# Altium schematic symbol library Esqlib.SchLib: 44 symbols (part 3 of 5)
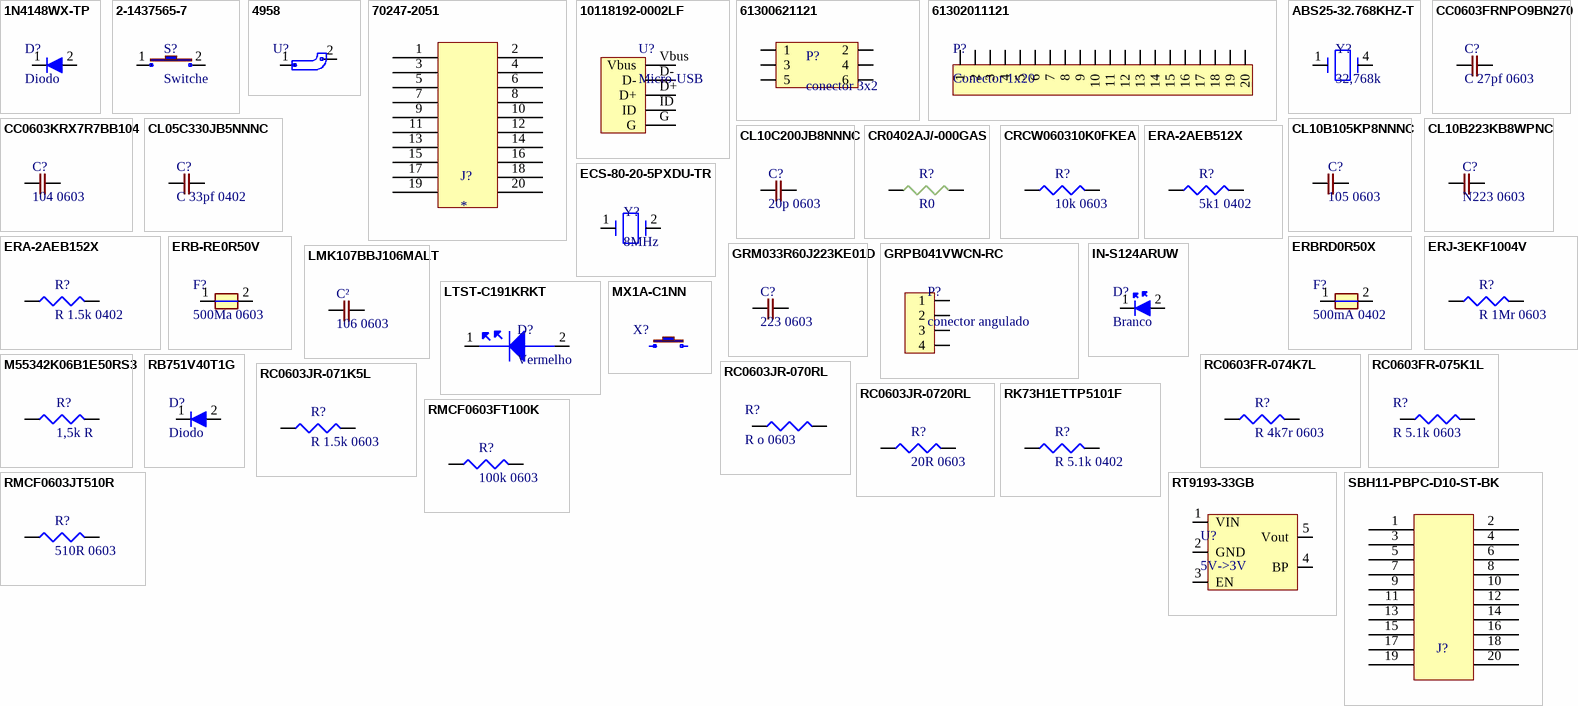
[diagram p3: symbols 1N4148WX-TP to SBH11-PBPC-D10-ST-BK]

## GRM033R60J223KE01D
designator C?, comment 223 0603
0201 22 nF 6.3 V ±10% Tolerance X5R SMT Multilayer Ceramic Capacitor; Manufacturer: Murata; Manufacturer Part Number: GRM033R60J223KE01D; Manufacturer Lifecycle Status: IN PRODUCTION; Value: 22nF; Voltage: 6.3V; Supplier: DigiKey; Supplier Part Number: 490-3169-1-ND; RoHS: Compliant; Category: Ceramic Capacitors; Stock: 1654104; Pricing: 1=0,1, 10=0,039, 50=0,0262, 100=0,0225, 500=0,01582, 1000=0,01271, 2500=0,01092 (USD); Case/Package: 0201; Case Code (Imperial): 0201; Case Code (Metric): 0603; Depth: 300µm; Dielectric: X5R; Dielectric Material: Ceramic; Height: 300µm; Lead Free: Lead Free; Length: 600µm; Lifecycle Status: Production; Material: Ceramic; Max Operating Temperature: 85°C; Min Operating Temperature: -55°C; Mounting Technology: Surface Mount; Pins: 2; Number of Terminals: 2; Packaging: Cut Tape; Radiation Hardening: No; REACH SVHC: Yes; Schedule B: 8532240020, 8532240020|8532240020, 8532240020|8532240020|8532240020, 8532240020|8532240020|8532240020|8532240020; Termination: SMD/SMT; Thickness: 300µm; Tolerance: 10%; Voltage Rating: 6.3V; Voltage Rating (DC): 6.3V; Width: 300µm; ComponentLink1URL: https://datasheet.octopart.com:443/GRM033R60J223KE01D-Murata-datasheet-8398336.pdf?src-supplier=element14+APAC; ComponentLink1Description: https://datasheet.octopart.com:443/GRM033R60J223KE01D-Murata-datasheet-8398336.pdf?src-supplier=element14+APAC; ComponentLink2URL: https://datasheet.octopart.com:443/GRM033R60J223KE01D-Murata-datasheet-62317030.pdf?src-supplier=element14+APAC; ComponentLink2Description: https://datasheet.octopart.com:443/GRM033R60J223KE01D-Murata-datasheet-62317030.pdf?src-supplier=element14+APAC; ComponentLink3URL: https://datasheet.octopart.com:443/GRM033R60J223KE01D-Murata-datasheet-8327535.pdf?src-supplier=_legacy+Avnet; ComponentLink3Description: https://datasheet.octopart.com:443/GRM033R60J223KE01D-Murata-datasheet-8327535.pdf?src-supplier=_legacy+Avnet; ComponentLink4URL: https://datasheet.octopart.com:443/GRM033R60J223KE01D-Murata-datasheet-14399030.pdf?src-supplier=Future+Electronics; ComponentLink4Description: https://datasheet.octopart.com:443/GRM033R60J223KE01D-Murata-datasheet-14399030.pdf?src-supplier=Future+Electronics; ComponentLink5URL: https://datasheet.octopart.com:443/GRM033R60J223KE01D-Murata-datasheet-22122223.pdf?src-supplier=Future+Electronics; ComponentLink5Description: https://datasheet.octopart.com:443/GRM033R60J223KE01D-Murata-datasheet-22122223.pdf?src-supplier=Future+Electronics; ComponentLink6URL: https://datasheet.octopart.com:443/GRM033R60J223KE01D-Murata-datasheet-44105384.pdf?src-supplier=Future+Electronics; ComponentLink6Description: https://datasheet.octopart.com:443/GRM033R60J223KE01D-Murata-datasheet-44105384.pdf?src-supplier=Future+Electronics; ComponentLink7URL: https://datasheet.octopart.com:443/GRM033R60J223KE01D-Murata-datasheet-165579666.pdf?src-supplier=TME; ComponentLink7Description: https://datasheet.octopart.com:443/GRM033R60J223KE01D-Murata-datasheet-165579666.pdf?src-supplier=TME; ComponentLink8URL: https://datasheet.octopart.com:443/GRM033R60J223KE01D-Murata-datasheet-141274201.pdf?src-supplier=Ciiva; ComponentLink8Description: https://datasheet.octopart.com:443/GRM033R60J223KE01D-Murata-datasheet-141274201.pdf?src-supplier=Ciiva; ComponentLink9URL: https://datasheet.octopart.com:443/GRM033R60J223KE01D-Murata-datasheet-140675770.pdf?src-supplier=Ciiva; ComponentLink9Description: https://datasheet.octopart.com:443/GRM033R60J223KE01D-Murata-datasheet-140675770.pdf?src-supplier=Ciiva; ComponentLink10URL: https://datasheet.octopart.com:443/GRM033R60J223KE01D-Murata-datasheet-138738347.pdf?src-supplier=Ciiva; ComponentLink10Description: https://datasheet.octopart.com:443/GRM033R60J223KE01D-Murata-datasheet-138738347.pdf?src-supplier=Ciiva; ComponentLink11URL: https://datasheet.octopart.com/GRM033R60J223KE01D-Murata-datasheet-12515295.pdf; ComponentLink11Description: https://datasheet.octopart.com/GRM033R60J223KE01D-Murata-datasheet-12515295.pdf; ComponentLink12URL: https://datasheet.octopart.com/GRM033R60J223KE01D-Murata-datasheet-12510076.pdf; ComponentLink12Description: https://datasheet.octopart.com/GRM033R60J223KE01D-Murata-datasheet-12510076.pdf; ComponentLink13URL: https://datasheet.octopart.com/GRM033R60J223KE01D-Murata-datasheet-11978611.pdf; ComponentLink13Description: https://datasheet.octopart.com/GRM033R60J223KE01D-Murata-datasheet-11978611.pdf; ComponentLink14URL: https://datasheet.octopart.com/GRM033R60J223KE01D-Murata-datasheet-10025737.pdf; ComponentLink14Description: https://datasheet.octopart.com/GRM033R60J223KE01D-Murata-datasheet-10025737.pdf; ComponentLink15URL: https://datasheet.octopart.com/GRM033R60J223KE01D-Murata-datasheet-8819587.pdf; ComponentLink15Description: https://datasheet.octopart.com/GRM033R60J223KE01D-Murata-datasheet-8819587.pdf; ComponentLink16URL: https://datasheet.octopart.com:443/GRM033R60J223KE01D.-Murata-datasheet-5332913.pdf?src-supplier=Farnell; ComponentLink16Description: https://datasheet.octopart.com:443/GRM033R60J223KE01D.-Murata-datasheet-5332913.pdf?src-supplier=Farnell; ComponentLink17URL: https://datasheet.octopart.com:443/GRM033R60J223KE01D-Murata-datasheet-148210.pdf?src-supplier=Garrett; ComponentLink17Description: https://datasheet.octopart.com:443/GRM033R60J223KE01D-Murata-datasheet-148210.pdf?src-supplier=Garrett; ComponentLink18URL: https://datasheet.octopart.com:443/GRM033R60J223KE01D-Murata-datasheet-118811.pdf?src-supplier=DigiKey; ComponentLink18Description: https://datasheet.octopart.com:443/GRM033R60J223KE01D-Murata-datasheet-118811.pdf?src-supplier=DigiKey; ComponentLink19URL: http://sigma.octopart.com:80/reach_statement/Murata-company-16.pdf?src-supplier=Compliance+Statements; ComponentLink19Description: http://sigma.octopart.com:80/reach_statement/Murata-company-16.pdf?src-supplier=Compliance+Statements
footprint cap 223 0603
pins: 1, 2

## GRPB041VWCN-RC
designator P?, comment conector angulado
ROHS3Compliant COMMERCIAL UL 2009 Connector Header -40C~105C 1A 0.069inch; Manufacturer: Sullins; Manufacturer Part Number: GRPB041VWCN-RC; Connector Type: Male Pin; Contact Resistance: 20mΩ; Dielectric Material: Polyamide; Insulation Resistance: 5GΩ; Number of Positions: 4; Pitch: 1.27mm; Supplier: DigiKey; Supplier Part Number: S9016E-04-ND; RoHS: Compliant; Category: Card Edge Connectors; Stock: 15187; Pricing: 1=0,35, 10=0,294, 100=0,2499, 500=0,223, 1000=0,21235, 5000=0,18955, 10000=0,1805 (USD); Contact Gender: Male; Contact Material: Brass; Contact Mating Length: 2.9972mm; Contact Plating: Gold; Current Rating: 1A; Lifecycle Status: Production; Max Operating Temperature: 105°C; Min Operating Temperature: -40°C; Mounting Technology: Through Hole; Pins: 4; Number of Rows: 1; Packaging: Bulk; REACH SVHC: Yes; Terminal Pitch: 1.27mm; Termination: Solder; ComponentLink1URL: https://datasheet.octopart.com:443/GRPB041VWCN-RC-Sullins-datasheet-17725985.pdf?src-supplier=Upverter; ComponentLink1Description: https://datasheet.octopart.com:443/GRPB041VWCN-RC-Sullins-datasheet-17725985.pdf?src-supplier=Upverter; ComponentLink2URL: https://datasheet.octopart.com:443/GRPB041VWCN-RC-Sullins-datasheet-12514290.pdf?src-supplier=IHS; ComponentLink2Description: https://datasheet.octopart.com:443/GRPB041VWCN-RC-Sullins-datasheet-12514290.pdf?src-supplier=IHS; ComponentLink3URL: https://datasheet.octopart.com:443/GRPB041VWCN-RC-Sullins-datasheet-138898432.pdf?src-supplier=Future+Electronics; ComponentLink3Description: https://datasheet.octopart.com:443/GRPB041VWCN-RC-Sullins-datasheet-138898432.pdf?src-supplier=Future+Electronics
footprint Conector angulado
pins: 1, 2, 3, 4

## IN-S124ARUW
designator D?, comment Branco
SMD LED - Mono Color Reverse Mount, 1204 1.1mm LED PCB Type, White, High Brightness, Clear Lens, Angle 140; Manufacturer: Inolux; Manufacturer Part Number: IN-S124ARUW; Forward Current: 20mA; Forward Voltage: 3.9V; Lens Style: Diffused; Luminous Intensity: 140mcd; Number of Circuits: 1; Reverse Voltage: 5V; Shape: Rectangular; Viewing Angle: 140°; Supplier: DigiKey; Supplier Part Number: 1830-1119-1-ND; RoHS: Compliant; Category: LEDs; Stock: 127045; Pricing: 1=0,29, 10=0,197, 100=0,1388, 500=0,11218, 1000=0,10337 (USD); China RoHS: Compliant; Color: White; Height: 800µm; Max Operating Temperature: 85°C; Min Operating Temperature: -40°C; Mounting Technology: Surface Mount; Number of Terminals: 2; REACH SVHC: Yes; Terminal Pitch: 2.7mm; ComponentLink1URL: https://datasheet.octopart.com:443/IN-S124ARUW-Inolux-datasheet-145017384.pdf?src-supplier=ODG+(Origin+Data+Global); ComponentLink1Description: https://datasheet.octopart.com:443/IN-S124ARUW-Inolux-datasheet-145017384.pdf?src-supplier=ODG+(Origin+Data+Global)
footprint Led branco
pins: 1, 2

## LMK107BBJ106MALT
designator C², comment 106 0603
Multilayer Ceramic Capacitors (High dielectric type), 10V, 10 uF, ± 20 %, 0603, X5R, RoHS; Manufacturer: Taiyo Yuden; Manufacturer Part Number: LMK107BBJ106MALT; Value: 10µF; Tolerance: 20%; Supplier: DigiKey; Supplier Part Number: 587-3258-1-ND; RoHS: Compliant; Category: Ceramic Capacitors; Stock: 1593340; Pricing: 1=0,08, 10=0,046, 50=0,036, 100=0,0256, 500=0,0212, 1000=0,01928 (USD); Case/Package: 0603; Case Code (Imperial): 0603; Case Code (Metric): 1608; Composition: Ceramic; Depth: 800µm; Dielectric: X5R; Dielectric Material: Ceramic; Height: 800µm; Lead Free: Lead Free; Length: 1.6mm; Lifecycle Status: Production; Material: Ceramic; Max Operating Temperature: 85°C; Min Operating Temperature: -55°C; Mounting Technology: Surface Mount; Number of Terminals: 2; Radiation Hardening: No; REACH SVHC: Yes; Termination: SMD/SMT; Thickness: 889µm; Voltage: 10V; Voltage Rating: 10V; Voltage Rating (DC): 10V; Width: 800µm; ComponentLink1URL: https://datasheet.octopart.com:443/LMK107BBJ106MALT-Taiyo-Yuden-datasheet-182109547.pdf?src-supplier=IHS; ComponentLink1Description: https://datasheet.octopart.com:443/LMK107BBJ106MALT-Taiyo-Yuden-datasheet-182109547.pdf?src-supplier=IHS; ComponentLink2URL: https://datasheet.octopart.com:443/LMK107BBJ106MALT-Taiyo-Yuden-datasheet-151625811.pdf?src-supplier=element14+APAC; ComponentLink2Description: https://datasheet.octopart.com:443/LMK107BBJ106MALT-Taiyo-Yuden-datasheet-151625811.pdf?src-supplier=element14+APAC; ComponentLink3URL: https://datasheet.octopart.com:443/LMK107BBJ106MALT-Taiyo-Yuden-datasheet-21408036.pdf?src-supplier=element14+APAC; ComponentLink3Description: https://datasheet.octopart.com:443/LMK107BBJ106MALT-Taiyo-Yuden-datasheet-21408036.pdf?src-supplier=element14+APAC; ComponentLink4URL: https://datasheet.octopart.com:443/LMK107BBJ106MALT-Taiyo-Yuden-datasheet-41194858.pdf?src-supplier=Newark; ComponentLink4Description: https://datasheet.octopart.com:443/LMK107BBJ106MALT-Taiyo-Yuden-datasheet-41194858.pdf?src-supplier=Newark; ComponentLink5URL: https://datasheet.octopart.com:443/LMK107BBJ106MALT-Taiyo-Yuden-datasheet-8857305.pdf?src-supplier=Newark; ComponentLink5Description: https://datasheet.octopart.com:443/LMK107BBJ106MALT-Taiyo-Yuden-datasheet-8857305.pdf?src-supplier=Newark; ComponentLink6URL: https://datasheet.octopart.com:443/LMK107BBJ106MALT-Taiyo-Yuden-datasheet-8434558.pdf?src-supplier=Newark; ComponentLink6Description: https://datasheet.octopart.com:443/LMK107BBJ106MALT-Taiyo-Yuden-datasheet-8434558.pdf?src-supplier=Newark; ComponentLink7URL: https://datasheet.octopart.com:443/LMK107BBJ106MALT-Taiyo-Yuden-datasheet-154807907.pdf?src-supplier=Master+Electronics; ComponentLink7Description: https://datasheet.octopart.com:443/LMK107BBJ106MALT-Taiyo-Yuden-datasheet-154807907.pdf?src-supplier=Master+Electronics; ComponentLink8URL: https://datasheet.octopart.com:443/LMK107BBJ106MALT-Taiyo-Yuden-datasheet-140424376.pdf?src-supplier=Master+Electronics; ComponentLink8Description: https://datasheet.octopart.com:443/LMK107BBJ106MALT-Taiyo-Yuden-datasheet-140424376.pdf?src-supplier=Master+Electronics; ComponentLink9URL: https://datasheet.octopart.com:443/LMK107BBJ106MALT-Taiyo-Yuden-datasheet-10851928.pdf?src-supplier=Future+Electronics; ComponentLink9Description: https://datasheet.octopart.com:443/LMK107BBJ106MALT-Taiyo-Yuden-datasheet-10851928.pdf?src-supplier=Future+Electronics; ComponentLink10URL: https://datasheet.octopart.com:443/LMK107BBJ106MALT-Taiyo-Yuden-datasheet-100443364.pdf?src-supplier=Future+Electronics; ComponentLink10Description: https://datasheet.octopart.com:443/LMK107BBJ106MALT-Taiyo-Yuden-datasheet-100443364.pdf?src-supplier=Future+Electronics; ComponentLink11URL: https://datasheet.octopart.com:443/LMK107BBJ106MALT-Taiyo-Yuden-datasheet-99833423.pdf?src-supplier=Future+Electronics; ComponentLink11Description: https://datasheet.octopart.com:443/LMK107BBJ106MALT-Taiyo-Yuden-datasheet-99833423.pdf?src-supplier=Future+Electronics; ComponentLink12URL: https://datasheet.octopart.com:443/LMK107BBJ106MALT-Taiyo-Yuden-datasheet-99833418.pdf?src-supplier=Future+Electronics; ComponentLink12Description: https://datasheet.octopart.com:443/LMK107BBJ106MALT-Taiyo-Yuden-datasheet-99833418.pdf?src-supplier=Future+Electronics; ComponentLink13URL: https://datasheet.octopart.com:443/LMK107BBJ106MALT-Taiyo-Yuden-datasheet-138738940.pdf?src-supplier=Taiyo+Yuden+SCT; ComponentLink13Description: https://datasheet.octopart.com:443/LMK107BBJ106MALT-Taiyo-Yuden-datasheet-138738940.pdf?src-supplier=Taiyo+Yuden+SCT
footprint cap 106 0603
pins: 1, 2

## LTST-C191KRKT
designator D?, comment Vermelho
LED Uni-Color Red 639nm 2-Pin Chip LED T/R / LED RED CLEAR 0603 SMD; Manufacturer: Lite-On; Manufacturer Part Number: LTST-C191KRKT; Current: 2A; Dominant Wavelength: 631nm; Forward Current: 30mA; Forward Voltage: 2.4V; Lens Color: Colorless; Luminous Intensity: 18mcd; Number of Circuits: 1; Power Dissipation: 75mW; Reverse Voltage: 5V; Shape: Rectangular; Test Current: 20mA; Viewing Angle: 130°; Voltage: 2V; Supplier: DigiKey; Supplier Part Number: 160-1447-1-ND; RoHS: Compliant; Category: LEDs; Stock: 812402; Pricing: 1=0,15, 10=0,1, 100=0,0687, 500=0,05446, 1000=0,0497, 2000=0,04563 (USD); Case/Package: 0603; Case Code (Imperial): 0603; Case Code (Metric): 1608; China RoHS: Compliant; Color: Red; Contact Plating: Tin; Depth: 800µm; Height: 550µm; Illumination Color: Red; Lead Free: Lead Free; Length: 1.6mm; Lens Style: Clear; Lens Transparency: Clear; Lifecycle Status: Production; Max Operating Temperature: 85°C; Min Operating Temperature: -55°C; Mounting Technology: Surface Mount; Number of Elements: 1; Number of LEDs: 1; Pins: 2; Number of Terminals: 2; Peak Wavelength: 639nm; Power Rating: 75mW; Radiation Hardening: No; REACH SVHC: Yes; Schedule B: 8541402000, 8541402000|8541402000|8541402000|8541402000|8541402000|8541402000|8541402000|8541402000, 8541402000|8541402000|8541402000|8541402000|8541402000|8541402000|8541402000|8541402000|8541402000, 8541402000|8541402000|8541402000|8541402000|8541402000|8541402000|8541402000|8541402000|8541402000|8541402000; Terminal Pitch: 1.5mm; Wavelength: 631nm; Width: 800µm; ComponentLink1URL: https://datasheet.octopart.com:443/LTST-C191KRKT-Lite-On-datasheet-86397322.pdf?src-supplier=Upverter; ComponentLink1Description: https://datasheet.octopart.com:443/LTST-C191KRKT-Lite-On-datasheet-86397322.pdf?src-supplier=Upverter; ComponentLink2URL: https://datasheet.octopart.com:443/LTST-C191KRKT-Lite-On-datasheet-180605194.pdf?src-supplier=IHS; ComponentLink2Description: https://datasheet.octopart.com:443/LTST-C191KRKT-Lite-On-datasheet-180605194.pdf?src-supplier=IHS; ComponentLink3URL: https://datasheet.octopart.com:443/LTST-C191KRKT-Lite-On-datasheet-158249.pdf?src-supplier=_legacy+Avnet; ComponentLink3Description: https://datasheet.octopart.com:443/LTST-C191KRKT-Lite-On-datasheet-158249.pdf?src-supplier=_legacy+Avnet; ComponentLink4URL: https://datasheet.octopart.com:443/LTST-C191KRKT-Lite-On-datasheet-32047004.pdf?src-supplier=TME; ComponentLink4Description: https://datasheet.octopart.com:443/LTST-C191KRKT-Lite-On-datasheet-32047004.pdf?src-supplier=TME; ComponentLink5URL: https://datasheet.octopart.com:443/LTST-C191KRKT-Lite-On-datasheet-165573808.pdf?src-supplier=TME; ComponentLink5Description: https://datasheet.octopart.com:443/LTST-C191KRKT-Lite-On-datasheet-165573808.pdf?src-supplier=TME; ComponentLink6URL: https://datasheet.octopart.com:443/LTST-C191KRKT-Lite-On-datasheet-157246188.pdf?src-supplier=ODG+(Origin+Data+Global); ComponentLink6Description: https://datasheet.octopart.com:443/LTST-C191KRKT-Lite-On-datasheet-157246188.pdf?src-supplier=ODG+(Origin+Data+Global); ComponentLink7URL: https://datasheet.octopart.com:443/LTST-C191KRKT-Lite-On-datasheet-8220457.pdf?src-supplier=Jameco; ComponentLink7Description: https://datasheet.octopart.com:443/LTST-C191KRKT-Lite-On-datasheet-8220457.pdf?src-supplier=Jameco; ComponentLink8URL: https://datasheet.octopart.com:443/LTST-C191KRKT-Lite-On-datasheet-64696.pdf?src-supplier=DigiKey; ComponentLink8Description: https://datasheet.octopart.com:443/LTST-C191KRKT-Lite-On-datasheet-64696.pdf?src-supplier=DigiKey
footprint LED Vermelho
pins: 1, 2

## M55342K06B1E50RS3
designator R?, comment 1,5k R
Fixed Resistor, Metal Glaze/thick Film, 0.15W, 1500ohm, 50V, 1% +/-Tol, 100ppm/Cel, Surface Mount, 0705; Manufacturer: Vishay; Manufacturer Part Number: M55342K06B1E50RS3; Max Power Dissipation: 150mW; Value: 1.5kΩ; Temperature Coefficient: 100ppm/°C; Supplier: DigiKey; Supplier Part Number: 541-M55342K06B1E50RS3CT-ND; Category: Chip SMD Resistors; Stock: 759; Pricing: 1=1,42, 10=0,838, 25=0,7528, 50=0,74, 100=0,7082, 250=0,66168, 500=0,63208 (USD); Case/Package: 0705; Case Code (Imperial): 0805; Case Code (Metric): 2012; China RoHS: Non-Compliant; Composition: Thick Film; Contact Plating: Lead, Tin; Depth: 1.27mm; Failure Rate: 0.01%; Features: Military; Height: 510µm; Length: 2.032mm; Lifecycle Status: Production; Max Operating Temperature: 150°C; Military Standard: MIL-PRF-55342; Min Operating Temperature: -65°C; Mounting Technology: Surface Mount; Number of Terminals: 2; Number of Terminations: 2; Packaging: Digi-Reel®; Power Dissipation: 150mW; Radiation Hardening: No; REACH SVHC: No; RoHS: Non-Compliant; Schedule B: 8533210045, 8533210045|8533210045|8533210045|8533210045|8533210045; Tolerance: 1%; Width: 1.27mm; Working Voltage: 50V; ComponentLink1URL: https://datasheet.octopart.com:443/M55342K06B1E50RS3-Vishay-datasheet-159614010.pdf?src-supplier=IHS; ComponentLink1Description: https://datasheet.octopart.com:443/M55342K06B1E50RS3-Vishay-datasheet-159614010.pdf?src-supplier=IHS; ComponentLink2URL: http://sigma.octopart.com:80/rohs_statement/Vishay-company-15.pdf?src-supplier=Compliance+Statements; ComponentLink2Description: http://sigma.octopart.com:80/rohs_statement/Vishay-company-15.pdf?src-supplier=Compliance+Statements
footprint R 1.5k
pins: 1, 2

## MX1A-C1NN
designator X?, comment switch  (value not drawn)
Switch, Key, Spst-no, Keyboard, Low Profile, 10MA, 12VDC, Soft Tactile, Fp Mnt, Std Force; Manufacturer: Cherry; Manufacturer Part Number: MX1A-C1NN; Actuator Length: 3.6mm; Actuator Material: Polyethylene, Thermoplastic; Contact Resistance: 200mΩ; Contact Voltage Rating (AC): 12V; Dielectric Material: Thermoplastic; Electrical Life: 20Mcycles; Insulation Resistance: 100MΩ; Operating Force: 589.4mN; Row Spacing: 2.54mm; Switch Function: Off-Mom; Throw Configuration: SPST; Supplier: DigiKey; Supplier Part Number: CH198-ND; RoHS: Compliant; Category: Pushbutton Switches; Stock: 664; Pricing: 1=1,25 (USD); Contact Current Rating: 10mA; Contact Material: Gold, Silver; Contact Plating: Gold; Current Rating: 10mA; Housing Material: Thermoplastic; Lead Free: Lead Free; Length: 15.5956mm; Max Current Rating: 10mA; Max Operating Temperature: 70°C; Max Voltage Rating (AC): 12V; Max Voltage Rating (DC): 12V; Mechanical Life: 20Mcycles; Min Operating Temperature: -10°C; Mounting Technology: Front, Panel, Through Hole; Number of Terminals: 2; Packaging: Bulk; REACH SVHC: Yes; Terminal Pitch: 6.35mm; Termination: PC Pin; Voltage Rating (AC): 12V; Voltage Rating (DC): 12V; Width: 15.6mm; ComponentLink1URL: https://datasheet.octopart.com:443/MX1A-C1NN-Cherry-datasheet-160429.pdf?src-supplier=Electro+Sonic; ComponentLink1Description: https://datasheet.octopart.com:443/MX1A-C1NN-Cherry-datasheet-160429.pdf?src-supplier=Electro+Sonic; ComponentLink2URL: https://datasheet.octopart.com:443/MX1A-C1NN-Cherry-datasheet-11735291.pdf?src-supplier=Electro+Sonic; ComponentLink2Description: https://datasheet.octopart.com:443/MX1A-C1NN-Cherry-datasheet-11735291.pdf?src-supplier=Electro+Sonic; ComponentLink3URL: https://datasheet.octopart.com:443/MX1A-C1NN-Cherry-datasheet-130429.pdf?src-supplier=Newark; ComponentLink3Description: https://datasheet.octopart.com:443/MX1A-C1NN-Cherry-datasheet-130429.pdf?src-supplier=Newark; ComponentLink4URL: https://datasheet.octopart.com:443/MX1A-C1NN-Cherry-datasheet-101570275.pdf?src-supplier=Newark; ComponentLink4Description: https://datasheet.octopart.com:443/MX1A-C1NN-Cherry-datasheet-101570275.pdf?src-supplier=Newark; ComponentLink5URL: https://datasheet.octopart.com:443/MX1A-C1NN-Cherry-datasheet-5391353.pdf?src-supplier=Newark; ComponentLink5Description: https://datasheet.octopart.com:443/MX1A-C1NN-Cherry-datasheet-5391353.pdf?src-supplier=Newark; ComponentLink6URL: https://datasheet.octopart.com:443/MX1AC1NN-Cherry-datasheet-137317204.pdf?src-supplier=Sager+Electronics; ComponentLink6Description: https://datasheet.octopart.com:443/MX1AC1NN-Cherry-datasheet-137317204.pdf?src-supplier=Sager+Electronics
footprint tecla

## RB751V40T1G
designator D?, comment Diodo
Rectifier Diode Schottky 40V 0.03A 2-Pin SOD-323 T/R / DIODE SCHOTTKY 30V 30MA SOD323; Manufacturer: onsemi; Manufacturer Part Number: RB751V40T1G; Manufacturer Lifecycle Status: ACTIVE; Value: 2pF; Element Configuration: Single; Forward Voltage: 370mV; Max Forward Surge Current (Ifsm): 500mA; Max Junction Temperature (Tj): 150°C; Max Power Dissipation: 200mW; Max Reverse Leakage Current: 500nA; Number of Elements: 1; Peak Reverse Current: 300nA; Polarity: Standard; Supplier: DigiKey; Supplier Part Number: RB751V40T1GOSCT-ND; RoHS: Compliant; Category: Schottky Diodes; Stock: 326738; Pricing: 1=0,12, 10=0,08, 100=0,0663, 500=0,0482, 1000=0,04232 (USD); Average Rectified Current: 30mA; Breakdown Voltage: 30V; Case/Package: SOD-323-2; China RoHS: Compliant; Contact Plating: Tin; Current Rating: 30mA; Forward Current: 30mA; Height: 1.1mm; Lead Free: Lead Free; Length: 1.7mm; Lifecycle Status: Production; Max Operating Temperature: 150°C; Max Output current: 30mA; Max Repetitive Reverse Voltage (Vrrm): 40V; Max Reverse Voltage (DC): 30V; Max Surge Current: 500mA; Min Operating Temperature: -55°C; Pins: 2; Number of Terminals: 2; Output Current: 30mA; Packaging: Tape and Reel; Peak Non-Repetitive Surge Current: 500mA; Power Dissipation: 200mW; Radiation Hardening: No; REACH SVHC: Yes; Reverse Standoff Voltage: 40V; Reverse Voltage: 30V; Schedule B: 8541100070, 8541100070|8541100070|8541100070|8541100070|8541100070; Voltage Rating (DC): 40V; Width: 1.25mm; ComponentLink1URL: https://datasheet.octopart.com:443/RB751V40T1G-ON-Semiconductor-datasheet-41194509.pdf?src-supplier=Newark; ComponentLink1Description: https://datasheet.octopart.com:443/RB751V40T1G-ON-Semiconductor-datasheet-41194509.pdf?src-supplier=Newark; ComponentLink2URL: https://datasheet.octopart.com:443/RB751V40T1G-onsemi-datasheet-181959519.pdf?src-supplier=Newark; ComponentLink2Description: https://datasheet.octopart.com:443/RB751V40T1G-onsemi-datasheet-181959519.pdf?src-supplier=Newark; ComponentLink3URL: https://datasheet.octopart.com:443/RB751V40T1G-onsemi-datasheet-180967452.pdf?src-supplier=IHS; ComponentLink3Description: https://datasheet.octopart.com:443/RB751V40T1G-onsemi-datasheet-180967452.pdf?src-supplier=IHS; ComponentLink4URL: https://datasheet.octopart.com:443/RB751V40T1G-ON-Semiconductor-datasheet-7840961.pdf?src-supplier=onsemi; ComponentLink4Description: https://datasheet.octopart.com:443/RB751V40T1G-ON-Semiconductor-datasheet-7840961.pdf?src-supplier=onsemi; ComponentLink5URL: https://sigma.octopart.com:443/138897946/technical_drawing/ON-Semiconductor-RB751V40T1G.pdf?src-supplier=Upverter; ComponentLink5Description: https://sigma.octopart.com:443/138897946/technical_drawing/ON-Semiconductor-RB751V40T1G.pdf?src-supplier=Upverter; ComponentLink6URL: https://datasheet.octopart.com:443/RB751V40T1G-onsemi-datasheet-189132549.pdf?src-supplier=Master+Electronics; ComponentLink6Description: https://datasheet.octopart.com:443/RB751V40T1G-onsemi-datasheet-189132549.pdf?src-supplier=Master+Electronics; ComponentLink7URL: https://datasheet.octopart.com:443/RB751V40T1G-ON-Semiconductor-datasheet-14053699.pdf?src-supplier=iiiC; ComponentLink7Description: https://datasheet.octopart.com:443/RB751V40T1G-ON-Semiconductor-datasheet-14053699.pdf?src-supplier=iiiC; ComponentLink8URL: http://sigma.octopart.com:80/150630996/rohs_statement/ON-Semiconductor-RB751V40T1G.pdf?src-supplier=Compliance+Statements; ComponentLink8Description: http://sigma.octopart.com:80/150630996/rohs_statement/ON-Semiconductor-RB751V40T1G.pdf?src-supplier=Compliance+Statements; ComponentLink9URL: http://sigma.octopart.com:80/reach_statement/ON-Semiconductor-company-79.pdf?src-supplier=Compliance+Statements; ComponentLink9Description: http://sigma.octopart.com:80/reach_statement/ON-Semiconductor-company-79.pdf?src-supplier=Compliance+Statements; ComponentLink10URL: https://octopart.com:443/opatz8j6/c1?t=IbneskzpI6_J-0eY_y-X2yn2N-5wLoMr36apzcez1S_u4OvquotVY5BE5fLqyPyiIhjspGfCn1ztEOQs5lUs8YSmcSDpiD0yNsSosKmFxQ2VZB7rFFyzFStaQmehSvuBD_5Fjp87ktPqqQqsOBmyFi_jZJIZCoBdtoiqD19nz4vQSd4pu3K8wIVgp6XFpI-O9H_zLHNefACfV6j-N4H3UJuvVBWUuLqINZc0CV-0fJawZMzDzVmangXZQ_aEOc3DOUx5hrTGhpQjW-fyp_zH5ezkV_H6XXL2FecWA9u7jRraK23ujBpybLeXZZ4QgBKpVYHs8tSA4CrzrXt4hEWg2haxnQGokIBqJFD5CN0&src-supplier=Compliance+Statements; ComponentLink10Description: https://octopart.com:443/opatz8j6/c1?t=IbneskzpI6_J-0eY_y-X2yn2N-5wLoMr36apzcez1S_u4OvquotVY5BE5fLqyPyiIhjspGfCn1ztEOQs5lUs8YSmcSDpiD0yNsSosKmFxQ2VZB7rFFyzFStaQmehSvuBD_5Fjp87ktPqqQqsOBmyFi_jZJIZCoBdtoiqD19nz4vQSd4pu3K8wIVgp6XFpI-O9H_zLHNefACfV6j-N4H3UJuvVBWUuLqINZc0CV-0fJawZMzDzVmangXZQ_aEOc3DOUx5hrTGhpQjW-fyp_zH5ezkV_H6XXL2FecWA9u7jRraK23ujBpybLeXZZ4QgBKpVYHs8tSA4CrzrXt4hEWg2haxnQGokIBqJFD5CN0&src-supplier=Compliance+Statements; ComponentLink11URL: https://octopart.com:443/opatz8j6/c1?t=qIfCs529ldaWZU0ub9LYhnPXHBmDeJdE0JV4wqGLUhnGh5a0BS7kfzUI9zL_JaDXZFykcslYIWxAhQ5X0oh6J8wRLEITjFJB-_qXZnEOzcPmN69_Qugj71XII_8ETcLUyzSs3rzS31vIojbIhgnJ_7XhuEMZJSZPHyPuMFBH_ZzDjM13A6tpbSWNI9CgjC1g_q5wgGJdNwHOPQ_BZxh8Y2CDUgAAWKD7AuUYdFw4kRI0fhiPd9fP-Ll6d45IPzSr4bAloWCduol0C0YJ_9IUZQSygUOMTjgU_wvPI_Jt6ISIRSVcSG3mdm5w8DKmD-PN91fyf4QeSQbgGTAN30a1piGPKkuf8znY58UiFA&src-supplier=Compliance+Statements; ComponentLink11Description: https://octopart.com:443/opatz8j6/c1?t=qIfCs529ldaWZU0ub9LYhnPXHBmDeJdE0JV4wqGLUhnGh5a0BS7kfzUI9zL_JaDXZFykcslYIWxAhQ5X0oh6J8wRLEITjFJB-_qXZnEOzcPmN69_Qugj71XII_8ETcLUyzSs3rzS31vIojbIhgnJ_7XhuEMZJSZPHyPuMFBH_ZzDjM13A6tpbSWNI9CgjC1g_q5wgGJdNwHOPQ_BZxh8Y2CDUgAAWKD7AuUYdFw4kRI0fhiPd9fP-Ll6d45IPzSr4bAloWCduol0C0YJ_9IUZQSygUOMTjgU_wvPI_Jt6ISIRSVcSG3mdm5w8DKmD-PN91fyf4QeSQbgGTAN30a1piGPKkuf8znY58UiFA&src-supplier=Compliance+Statements
footprint Diodo C
pins: 1, 2

## RC0603FR-074K7L
designator R?, comment R 4k7r 0603
Res Thick Film 1.6 x 0.8 mm 4.7K Ohm 1% 0.1W(1/10W) 100ppm/ C Molded SMD Paper T/R; Manufacturer: Yageo Group; Manufacturer Part Number: RC0603FR-074K7L; Power Dissipation: 100mW; Value: 4.7kΩ; Temperature Coefficient: 100ppm/°C; Voltage Rating: 75V; Voltage Rating (DC): 50V; Supplier: DigiKey; Supplier Part Number: 311-4.70KHRCT-ND; RoHS: Compliant; Category: Chip SMD Resistors; Stock: 353328; Pricing: 1=0,1, 10=0,009, 25=0,0088, 50=0,0052 (USD); Case/Package: 0603; Case Code (Imperial): 0603; China RoHS: Non-Compliant; Composition: Thick Film; Depth: 800µm; Height: 450µm; Lead Free: Lead Free; Lead Pitch: 300µm; Length: 1.6mm; Lifecycle Status: Production; Max Operating Temperature: 155°C; Military Standard: Not; Min Operating Temperature: -55°C; Mounting Technology: Surface Mount; Pins: 2; Number of Terminals: 2; Packaging: Tape & Reel; Power Rating: 100mW; REACH SVHC: Yes; Schedule B: 8533210045, 8533210045|8533210045|8533210045|8533210045|8533210045|8533210045|8533210045|8533210045|8533210045|8533210045|8533210045|8533210045|8533210045|8533210045|8533210045|8533210045|8533210045|8533210045|8533210045|8533210045|8533210045|8533210045|8533210045|85; Termination: SMD/SMT; Tolerance: 1%; Width: 800µm; Working Voltage: 75V; ComponentLink1URL: https://datasheet.octopart.com:443/RC0603FR-074K7L-Yageo-datasheet-175887523.pdf?src-supplier=IHS; ComponentLink1Description: https://datasheet.octopart.com:443/RC0603FR-074K7L-Yageo-datasheet-175887523.pdf?src-supplier=IHS; ComponentLink2URL: https://datasheet.octopart.com:443/RC0603FR-074K7L-Yageo-datasheet-103092701.pdf?src-supplier=Upverter; ComponentLink2Description: https://datasheet.octopart.com:443/RC0603FR-074K7L-Yageo-datasheet-103092701.pdf?src-supplier=Upverter; ComponentLink3URL: https://datasheet.octopart.com:443/RC0603FR-074K7L-Yageo-datasheet-8328172.pdf?src-supplier=Farnell; ComponentLink3Description: https://datasheet.octopart.com:443/RC0603FR-074K7L-Yageo-datasheet-8328172.pdf?src-supplier=Farnell; ComponentLink4URL: https://datasheet.octopart.com:443/RC0603FR-074K7L-Yageo-datasheet-13691069.pdf?src-supplier=Farnell; ComponentLink4Description: https://datasheet.octopart.com:443/RC0603FR-074K7L-Yageo-datasheet-13691069.pdf?src-supplier=Farnell; ComponentLink5URL: https://datasheet.octopart.com:443/RC0603FR-074K7L-Yageo-datasheet-175423674.pdf?src-supplier=Newark; ComponentLink5Description: https://datasheet.octopart.com:443/RC0603FR-074K7L-Yageo-datasheet-175423674.pdf?src-supplier=Newark; ComponentLink6URL: https://datasheet.octopart.com:443/RC0603FR-074K7L-Yageo-datasheet-12596169.pdf?src-supplier=Newark; ComponentLink6Description: https://datasheet.octopart.com:443/RC0603FR-074K7L-Yageo-datasheet-12596169.pdf?src-supplier=Newark; ComponentLink7URL: https://datasheet.octopart.com:443/RC0603FR-074K7L-Yageo-datasheet-503470.pdf?src-supplier=Newark; ComponentLink7Description: https://datasheet.octopart.com:443/RC0603FR-074K7L-Yageo-datasheet-503470.pdf?src-supplier=Newark; ComponentLink8URL: https://datasheet.octopart.com:443/RC0603FR-074K7L-Yageo-datasheet-34211833.pdf?src-supplier=element14+APAC; ComponentLink8Description: https://datasheet.octopart.com:443/RC0603FR-074K7L-Yageo-datasheet-34211833.pdf?src-supplier=element14+APAC; ComponentLink9URL: https://datasheet.octopart.com:443/RC0603FR-074K7L-Yageo-datasheet-62067350.pdf?src-supplier=element14+APAC; ComponentLink9Description: https://datasheet.octopart.com:443/RC0603FR-074K7L-Yageo-datasheet-62067350.pdf?src-supplier=element14+APAC; ComponentLink10URL: https://datasheet.octopart.com:443/RC0603FR-074K7L-Yageo-datasheet-17842380.pdf?src-supplier=element14+APAC; ComponentLink10Description: https://datasheet.octopart.com:443/RC0603FR-074K7L-Yageo-datasheet-17842380.pdf?src-supplier=element14+APAC; ComponentLink11URL: https://datasheet.octopart.com:443/RC0603FR-074K7L-Yageo-datasheet-164759695.pdf?src-supplier=Future+Electronics; ComponentLink11Description: https://datasheet.octopart.com:443/RC0603FR-074K7L-Yageo-datasheet-164759695.pdf?src-supplier=Future+Electronics; ComponentLink12URL: https://datasheet.octopart.com:443/RC0603FR-074K7L-Yageo-datasheet-137700087.pdf?src-supplier=Future+Electronics; ComponentLink12Description: https://datasheet.octopart.com:443/RC0603FR-074K7L-Yageo-datasheet-137700087.pdf?src-supplier=Future+Electronics; ComponentLink13URL: https://datasheet.octopart.com:443/RC0603FR074K7L-Yageo-datasheet-27584510.pdf?src-supplier=Future+Electronics; ComponentLink13Description: https://datasheet.octopart.com:443/RC0603FR074K7L-Yageo-datasheet-27584510.pdf?src-supplier=Future+Electronics; ComponentLink14URL: https://datasheet.octopart.com:443/RC0603FR-074K7L-Yageo-datasheet-15599030.pdf?src-supplier=Future+Electronics; ComponentLink14Description: https://datasheet.octopart.com:443/RC0603FR-074K7L-Yageo-datasheet-15599030.pdf?src-supplier=Future+Electronics; ComponentLink15URL: https://datasheet.octopart.com:443/RC0603FR-074K7L-Yageo-datasheet-79472498.pdf?src-supplier=Megastar; ComponentLink15Description: https://datasheet.octopart.com:443/RC0603FR-074K7L-Yageo-datasheet-79472498.pdf?src-supplier=Megastar; ComponentLink16URL: https://datasheet.octopart.com/RC0603FR-074K7L-Yageo-datasheet-73766026.pdf; ComponentLink16Description: https://datasheet.octopart.com/RC0603FR-074K7L-Yageo-datasheet-73766026.pdf; ComponentLink17URL: https://datasheet.octopart.com:443/RC0603FR-074K7L-Yageo-datasheet-118562.pdf?src-supplier=DigiKey; ComponentLink17Description: https://datasheet.octopart.com:443/RC0603FR-074K7L-Yageo-datasheet-118562.pdf?src-supplier=DigiKey; ComponentLink18URL: http://sigma.octopart.com:80/rohs_statement/Yageo-company-2.pdf?src-supplier=Compliance+Statements; ComponentLink18Description: http://sigma.octopart.com:80/rohs_statement/Yageo-company-2.pdf?src-supplier=Compliance+Statements; ComponentLink19URL: http://sigma.octopart.com:80/conflict_mineral_statement/Yageo-company-3.pdf?src-supplier=Compliance+Statements; ComponentLink19Description: http://sigma.octopart.com:80/conflict_mineral_statement/Yageo-company-3.pdf?src-supplier=Compliance+Statements
footprint R 4k7r 0603
pins: 1, 2

## RC0603FR-075K1L
designator R?, comment R 5.1k 0603
Res Thick Film 0603 5.1K Ohm 1% 0.1W(1/10W) ±100ppm/C Pad SMD T/R; Manufacturer: Yageo Group; Manufacturer Part Number: RC0603FR-075K1L; Max Power Dissipation: 100mW; Value: 5.1kΩ; Temperature Coefficient: 100ppm/°C; Voltage Rating: 75V; Voltage Rating (DC): 50V; Supplier: DigiKey; Supplier Part Number: 311-5.10KHRCT-ND; RoHS: Compliant; Category: Chip SMD Resistors; Stock: 641466; Pricing: 1=0,1, 10=0,007, 25=0,0068, 50=0,0062, 100=0,0057 (USD); Case/Package: 0603; Case Code (Imperial): 0603; China RoHS: Non-Compliant; Composition: Thick Film; Depth: 800µm; Features: Moisture Resistant; Height: 450µm; Lead Free: Lead Free; Lifecycle Status: Production; Max Operating Temperature: 155°C; Military Standard: Not; Min Operating Temperature: -55°C; Mounting Technology: Surface Mount; Pins: 2; Number of Terminals: 2; Number of Terminations: 2; Packaging: Tape & Reel; Power Dissipation: 100mW; Power Rating: 100mW; REACH SVHC: Yes; Schedule B: 8533210045, 8533210045|8533210045, 8533210045|8533210045|8533210045, 8533210045|8533210045|8533210045|8533210045; Termination: SMD/SMT; Tolerance: 1%; Width: 800µm; Working Voltage: 75V; ComponentLink1URL: https://datasheet.octopart.com:443/RC0603FR-075K1L-Yageo-datasheet-175887523.pdf?src-supplier=IHS; ComponentLink1Description: https://datasheet.octopart.com:443/RC0603FR-075K1L-Yageo-datasheet-175887523.pdf?src-supplier=IHS; ComponentLink2URL: https://datasheet.octopart.com:443/RC0603FR-075K1L-Yageo-datasheet-103092701.pdf?src-supplier=Upverter; ComponentLink2Description: https://datasheet.octopart.com:443/RC0603FR-075K1L-Yageo-datasheet-103092701.pdf?src-supplier=Upverter; ComponentLink3URL: https://datasheet.octopart.com:443/RC0603FR-075K1L-Yageo-Group-datasheet-190305687.pdf?src-supplier=Newark; ComponentLink3Description: https://datasheet.octopart.com:443/RC0603FR-075K1L-Yageo-Group-datasheet-190305687.pdf?src-supplier=Newark; ComponentLink4URL: https://datasheet.octopart.com:443/RC0603FR-075K1L-Yageo-datasheet-8328172.pdf?src-supplier=Farnell; ComponentLink4Description: https://datasheet.octopart.com:443/RC0603FR-075K1L-Yageo-datasheet-8328172.pdf?src-supplier=Farnell; ComponentLink5URL: https://datasheet.octopart.com:443/RC0603FR-075K1L-Yageo-datasheet-62067350.pdf?src-supplier=Farnell; ComponentLink5Description: https://datasheet.octopart.com:443/RC0603FR-075K1L-Yageo-datasheet-62067350.pdf?src-supplier=Farnell; ComponentLink6URL: https://datasheet.octopart.com:443/RC0603FR-075K1L-Yageo-datasheet-34211833.pdf?src-supplier=element14+APAC; ComponentLink6Description: https://datasheet.octopart.com:443/RC0603FR-075K1L-Yageo-datasheet-34211833.pdf?src-supplier=element14+APAC; ComponentLink7URL: https://datasheet.octopart.com:443/RC0603FR-075K1L-Yageo-datasheet-164759695.pdf?src-supplier=Future+Electronics; ComponentLink7Description: https://datasheet.octopart.com:443/RC0603FR-075K1L-Yageo-datasheet-164759695.pdf?src-supplier=Future+Electronics; ComponentLink8URL: https://datasheet.octopart.com:443/RC0603FR-075K1L-Yageo-datasheet-137700087.pdf?src-supplier=Future+Electronics; ComponentLink8Description: https://datasheet.octopart.com:443/RC0603FR-075K1L-Yageo-datasheet-137700087.pdf?src-supplier=Future+Electronics; ComponentLink9URL: https://datasheet.octopart.com:443/RC0603FR-075K1L-Yageo-datasheet-15599030.pdf?src-supplier=Future+Electronics; ComponentLink9Description: https://datasheet.octopart.com:443/RC0603FR-075K1L-Yageo-datasheet-15599030.pdf?src-supplier=Future+Electronics; ComponentLink10URL: https://datasheet.octopart.com:443/RC0603FR-075K1L-Yageo-datasheet-12596169.pdf?src-supplier=Future+Electronics; ComponentLink10Description: https://datasheet.octopart.com:443/RC0603FR-075K1L-Yageo-datasheet-12596169.pdf?src-supplier=Future+Electronics; ComponentLink11URL: https://datasheet.octopart.com:443/RC0603FR-075K1L-Yageo-datasheet-503470.pdf?src-supplier=Future+Electronics; ComponentLink11Description: https://datasheet.octopart.com:443/RC0603FR-075K1L-Yageo-datasheet-503470.pdf?src-supplier=Future+Electronics; ComponentLink12URL: https://datasheet.octopart.com:443/RC0603FR-075K1L-Yageo-datasheet-148775077.pdf?src-supplier=TME; ComponentLink12Description: https://datasheet.octopart.com:443/RC0603FR-075K1L-Yageo-datasheet-148775077.pdf?src-supplier=TME; ComponentLink13URL: https://datasheet.octopart.com:443/RC0603FR-075K1L-Yageo-datasheet-79472498.pdf?src-supplier=Megastar; ComponentLink13Description: https://datasheet.octopart.com:443/RC0603FR-075K1L-Yageo-datasheet-79472498.pdf?src-supplier=Megastar; ComponentLink14URL: https://datasheet.octopart.com/RC0603FR-075K1L-Yageo-datasheet-73766026.pdf; ComponentLink14Description: https://datasheet.octopart.com/RC0603FR-075K1L-Yageo-datasheet-73766026.pdf; ComponentLink15URL: https://datasheet.octopart.com:443/RC0603FR-075K1L-Yageo-datasheet-118562.pdf?src-supplier=DigiKey; ComponentLink15Description: https://datasheet.octopart.com:443/RC0603FR-075K1L-Yageo-datasheet-118562.pdf?src-supplier=DigiKey; ComponentLink16URL: http://sigma.octopart.com:80/conflict_mineral_statement/Yageo-company-3.pdf?src-supplier=Compliance+Statements; ComponentLink16Description: http://sigma.octopart.com:80/conflict_mineral_statement/Yageo-company-3.pdf?src-supplier=Compliance+Statements; ComponentLink17URL: http://sigma.octopart.com:80/rohs_statement/Yageo-company-2.pdf?src-supplier=Compliance+Statements; ComponentLink17Description: http://sigma.octopart.com:80/rohs_statement/Yageo-company-2.pdf?src-supplier=Compliance+Statements
footprint R 5.1k 0603
pins: 1, 2

## RC0603JR-070RL
designator R?, comment R o 0603
GENERAL PURPOSE CHIP RESISTOR Metal Glaze/thick Film, 0.1W, 0ohm, Surface Mount, 0603; Manufacturer: Yageo Group; Manufacturer Part Number: RC0603JR-070RL; Power Dissipation: 100mW; Value: 0Ω; Temperature Coefficient: 200ppm/°C; Tolerance: 1%; Voltage Rating: 50V; Supplier: DigiKey; Supplier Part Number: 311-0.0GRCT-ND; RoHS: Compliant; Category: Chip SMD Resistors; Stock: 3064783; Pricing: 1=0,1, 10=0,010, 25=0,008, 50=0,0068, 100=0,0059, 250=0,00496, 500=0,00436, 1000=0,00384 (USD); Case/Package: 0603; Case Code (Imperial): 0603; China RoHS: Non-Compliant; Composition: Thick Film; Contact Plating: Tin; Depth: 800µm; Height: 450µm; Lead Free: Lead Free; Length: 1.6mm; Lifecycle Status: Production; Max Operating Temperature: 155°C; Military Standard: Not; Min Operating Temperature: -55°C; Mounting Technology: Surface Mount; Pins: 2; Number of Terminals: 2; Packaging: Cut Tape; Power Rating: 100mW; Radiation Hardening: No; REACH SVHC: Yes; Termination: SMD/SMT; Voltage Rating (DC): 50V; Width: 800µm; ComponentLink1URL: https://datasheet.octopart.com:443/RC0603JR-070RL-Yageo-datasheet-182189538.pdf?src-supplier=IHS; ComponentLink1Description: https://datasheet.octopart.com:443/RC0603JR-070RL-Yageo-datasheet-182189538.pdf?src-supplier=IHS; ComponentLink2URL: https://datasheet.octopart.com:443/RC0603JR-070RL-Yageo-datasheet-8328172.pdf?src-supplier=element14+APAC; ComponentLink2Description: https://datasheet.octopart.com:443/RC0603JR-070RL-Yageo-datasheet-8328172.pdf?src-supplier=element14+APAC; ComponentLink3URL: https://datasheet.octopart.com:443/RC0603JR-070RL-Yageo-datasheet-17842380.pdf?src-supplier=element14+APAC; ComponentLink3Description: https://datasheet.octopart.com:443/RC0603JR-070RL-Yageo-datasheet-17842380.pdf?src-supplier=element14+APAC; ComponentLink4URL: https://datasheet.octopart.com:443/RC0603JR-070RL-Yageo-Group-datasheet-190305687.pdf?src-supplier=Newark; ComponentLink4Description: https://datasheet.octopart.com:443/RC0603JR-070RL-Yageo-Group-datasheet-190305687.pdf?src-supplier=Newark; ComponentLink5URL: https://datasheet.octopart.com:443/RC0603JR-070RL-Yageo-datasheet-12596169.pdf?src-supplier=Newark; ComponentLink5Description: https://datasheet.octopart.com:443/RC0603JR-070RL-Yageo-datasheet-12596169.pdf?src-supplier=Newark; ComponentLink6URL: https://datasheet.octopart.com:443/RC0603JR-070RL-Yageo-datasheet-34211833.pdf?src-supplier=Newark; ComponentLink6Description: https://datasheet.octopart.com:443/RC0603JR-070RL-Yageo-datasheet-34211833.pdf?src-supplier=Newark; ComponentLink7URL: https://datasheet.octopart.com:443/RC0603JR-070RL-Yageo-datasheet-62067350.pdf?src-supplier=Farnell; ComponentLink7Description: https://datasheet.octopart.com:443/RC0603JR-070RL-Yageo-datasheet-62067350.pdf?src-supplier=Farnell; ComponentLink8URL: https://datasheet.octopart.com:443/RC0603JR-070RL-Yageo-datasheet-15599030.pdf?src-supplier=Future+Electronics; ComponentLink8Description: https://datasheet.octopart.com:443/RC0603JR-070RL-Yageo-datasheet-15599030.pdf?src-supplier=Future+Electronics; ComponentLink9URL: https://datasheet.octopart.com:443/RC0603JR-070RL-Yageo-datasheet-164759695.pdf?src-supplier=Future+Electronics; ComponentLink9Description: https://datasheet.octopart.com:443/RC0603JR-070RL-Yageo-datasheet-164759695.pdf?src-supplier=Future+Electronics; ComponentLink10URL: https://datasheet.octopart.com:443/RC0603JR-070RL-Yageo-datasheet-137700087.pdf?src-supplier=Future+Electronics; ComponentLink10Description: https://datasheet.octopart.com:443/RC0603JR-070RL-Yageo-datasheet-137700087.pdf?src-supplier=Future+Electronics; ComponentLink11URL: https://datasheet.octopart.com:443/RC0603JR-070RL-Yageo-datasheet-27584510.pdf?src-supplier=Future+Electronics; ComponentLink11Description: https://datasheet.octopart.com:443/RC0603JR-070RL-Yageo-datasheet-27584510.pdf?src-supplier=Future+Electronics; ComponentLink12URL: https://datasheet.octopart.com:443/RC0603JR-070RL-Yageo-datasheet-503470.pdf?src-supplier=Future+Electronics; ComponentLink12Description: https://datasheet.octopart.com:443/RC0603JR-070RL-Yageo-datasheet-503470.pdf?src-supplier=Future+Electronics; ComponentLink13URL: https://datasheet.octopart.com:443/RC0603JR-070RL-Yageo-datasheet-79472498.pdf?src-supplier=Megastar; ComponentLink13Description: https://datasheet.octopart.com:443/RC0603JR-070RL-Yageo-datasheet-79472498.pdf?src-supplier=Megastar; ComponentLink14URL: https://datasheet.octopart.com/RC0603JR-070RL-Yageo-datasheet-73766026.pdf; ComponentLink14Description: https://datasheet.octopart.com/RC0603JR-070RL-Yageo-datasheet-73766026.pdf; ComponentLink15URL: https://datasheet.octopart.com:443/RC0603JR-070RL-Yageo-datasheet-5393049.pdf?src-supplier=element14; ComponentLink15Description: https://datasheet.octopart.com:443/RC0603JR-070RL-Yageo-datasheet-5393049.pdf?src-supplier=element14; ComponentLink16URL: https://datasheet.octopart.com:443/RC0603JR-070RL-Yageo-datasheet-118562.pdf?src-supplier=DigiKey; ComponentLink16Description: https://datasheet.octopart.com:443/RC0603JR-070RL-Yageo-datasheet-118562.pdf?src-supplier=DigiKey; ComponentLink17URL: http://sigma.octopart.com:80/conflict_mineral_statement/Yageo-company-3.pdf?src-supplier=Compliance+Statements; ComponentLink17Description: http://sigma.octopart.com:80/conflict_mineral_statement/Yageo-company-3.pdf?src-supplier=Compliance+Statements; ComponentLink18URL: http://sigma.octopart.com:80/rohs_statement/Yageo-company-2.pdf?src-supplier=Compliance+Statements; ComponentLink18Description: http://sigma.octopart.com:80/rohs_statement/Yageo-company-2.pdf?src-supplier=Compliance+Statements
footprint R 0 0603
pins: 1, 2